# EAGLE library part MOLEX_IGRID_15X2CONNECTOR (library HFS4011sCustom)
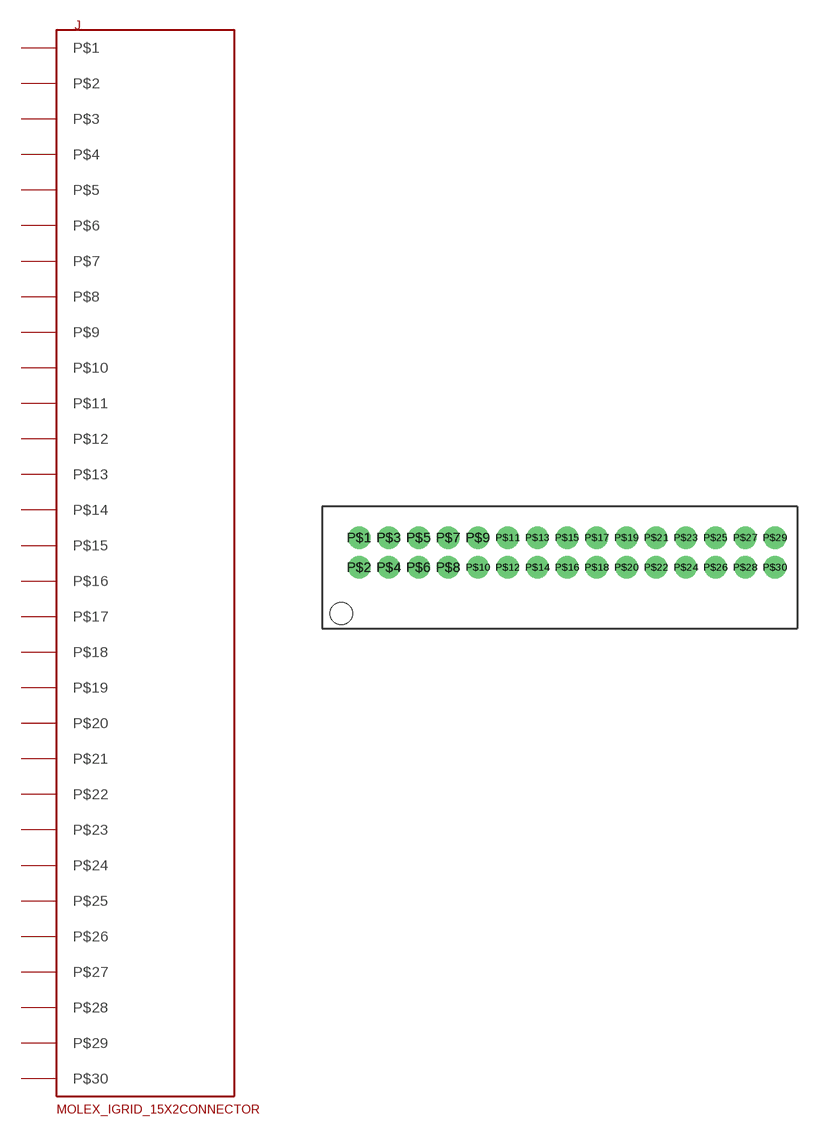
[diagram p3: symbol with the pads of MOLEX_IGRID15X2CONNECTOR; footprint MOLEX_IGRID15X2CONNECTOR]

Designator prefix J

## MOLEX_IGRID_15X2CONNECTOR  [MOLEX_IGRID15X2CONNECTOR]
P$1  P$1
P$2  P$2
P$3  P$3
P$4  P$4
P$5  P$5
P$6  P$6
P$7  P$7
P$8  P$8
P$9  P$9
P$10  P$10
P$11  P$11
P$12  P$12
P$13  P$13
P$14  P$14
P$15  P$15
P$16  P$16
P$17  P$17
P$18  P$18
P$19  P$19
P$20  P$20
P$21  P$21
P$22  P$22
P$23  P$23
P$24  P$24
P$25  P$25
P$26  P$26
P$27  P$27
P$28  P$28
P$29  P$29
P$30  P$30

## Footprint MOLEX_IGRID15X2CONNECTOR (pad centres in mm)
drill 1 pad 1.422: P$1 -12.99,1.16; P$2 -12.99,-0.84; P$3 -10.99,1.16; P$4 -10.99,-0.84; P$5 -8.99,1.16; P$6 -8.99,-0.84; P$7 -6.99,1.16; P$8 -6.99,-0.84; P$9 -4.99,1.16; P$10 -4.99,-0.84; P$11 -2.99,1.16; P$12 -2.99,-0.84; P$13 -0.99,1.16; P$14 -0.99,-0.84; P$15 1.01,1.16; P$16 1.01,-0.84; P$17 3.01,1.16; P$18 3.01,-0.84; P$19 5.01,1.16; P$20 5.01,-0.84; P$21 7.01,1.16; P$22 7.01,-0.84; P$23 9.01,1.16; P$24 9.01,-0.84; P$25 11.01,1.16; P$26 11.01,-0.84; P$27 13.01,1.16; P$28 13.01,-0.84; P$29 15.01,1.16; P$30 15.01,-0.84
hole 1.5 at -14.19,-3.94